# Altium footprint library SparkFun-Sensors.PCBLIB: 67 footprints (part 2 of 5)
Each footprint in its own frame and in the unit in brackets; x right, y up, seen from the top. Pads: shape width x height; smd on the part's side, far side on the other; paste and mask are expansions set on the pad; w line width, h text height; cw(c..) or ccw(c..) is an arc to the next point about the centre after c.
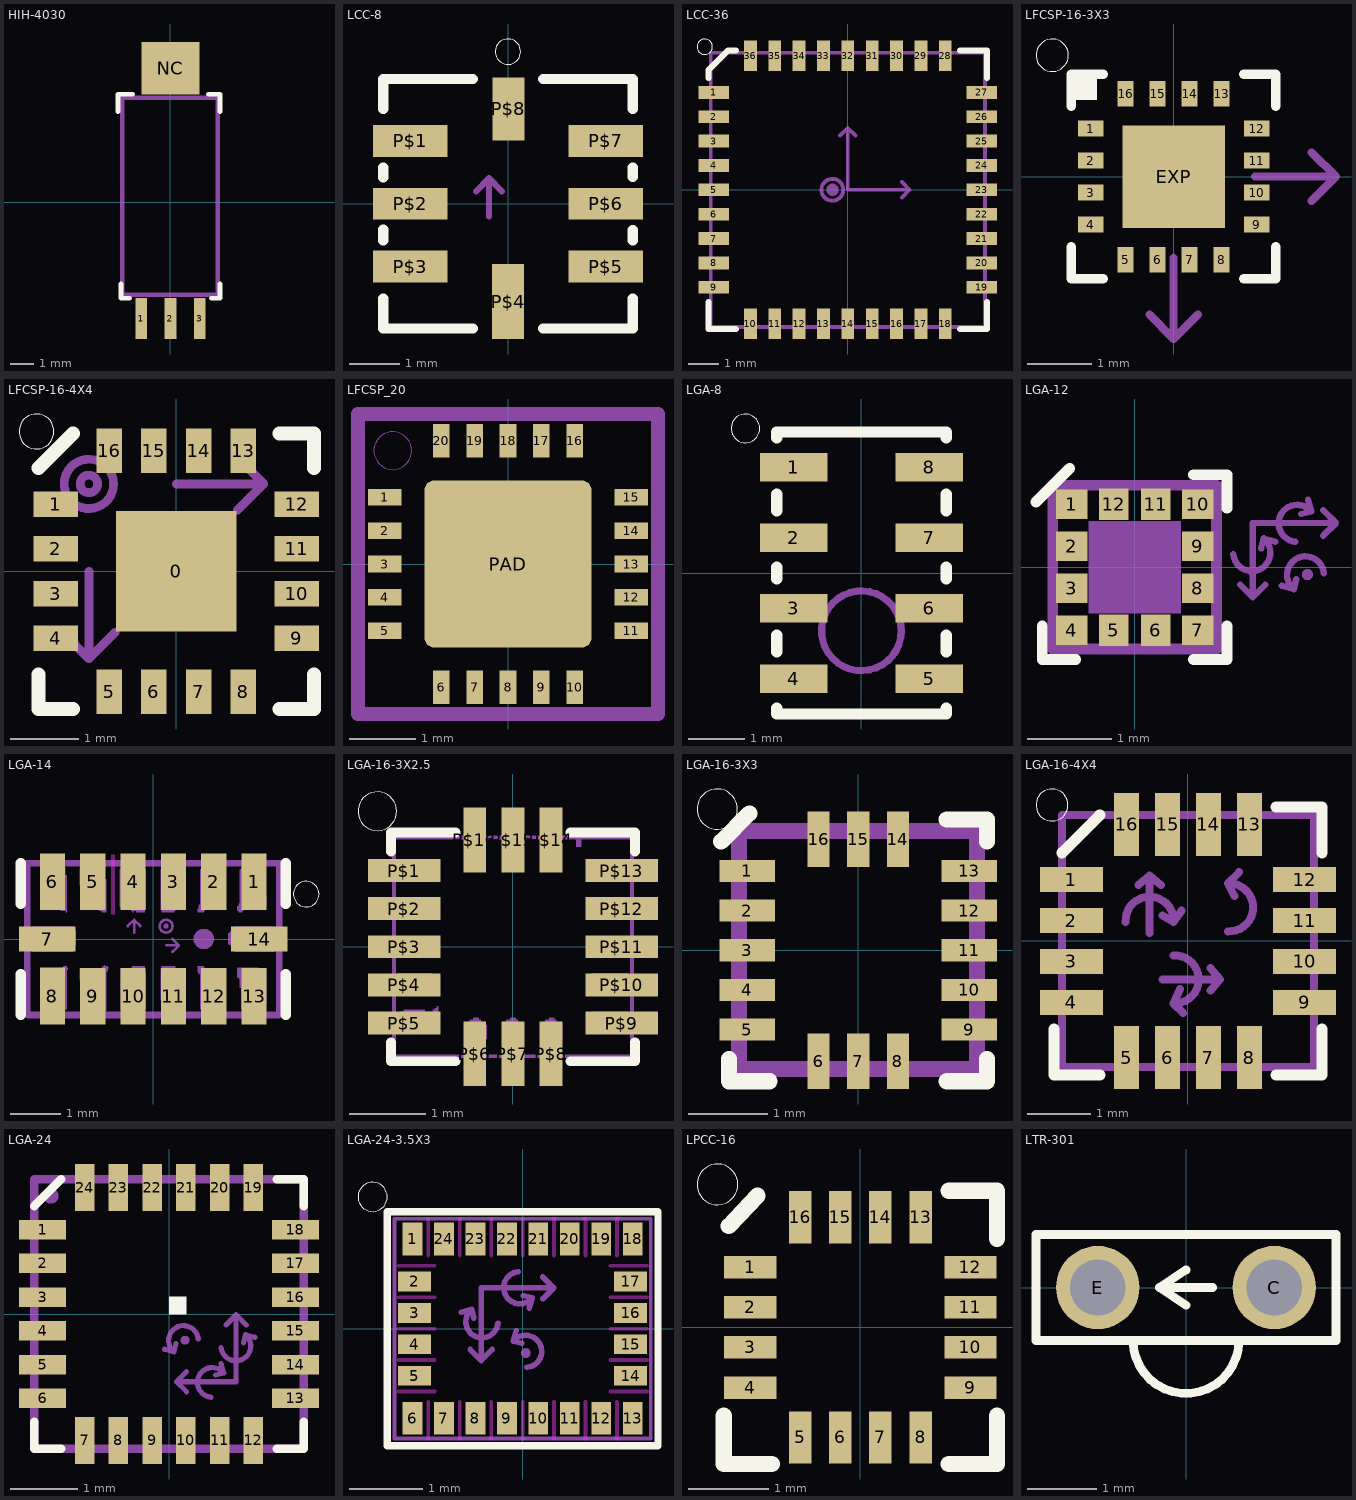
[diagram p1: the footprints below, top view; thin cyan lines are the x and y axes]

## HIH-4030 [mil]
pads (4):
  rect 20x70 smd: 1(-50,-200) 2(0,-200) 3(50,-200)
  rect 100x90 smd: NC(0,230)
Top Overlay:
  lines w8: -90,155 -90,185 -65,185 ; -85,-140 -85,-165 -70,-165 ; 65,185 85,185 85,155 ; 70,-165 85,-165 85,-140
Mechanical 16:
  lines w8: -83,-159 81,-159 81,179 -83,179 -83,-159

## LCC-8 [mm]
pads (8):
  rect 1.5x0.64 smd: P$1(-1.96,1.26) P$2(-1.96,0) P$3(-1.96,-1.26) P$5(1.96,-1.26) P$6(1.96,0) P$7(1.96,1.26)
  rect 0.64x1.5 smd: P$4(0,-1.96)
  rect 0.64x1.27 smd: P$8(0.01,1.9)
Top Overlay:
  circle w0: c0,3.048 r0.254
  lines w0.203: -2.5,-1.9 -2.5,-2.5 -0.7,-2.5 ; -2.5,-0.73 -2.5,-0.52 ; -2.5,0.53 -2.5,0.73 ; -2.5,1.9 -2.5,2.5 -0.7,2.5 ; 0.7,-2.5 2.5,-2.5 2.5,-1.9 ; 0.7,2.5 2.5,2.5 2.5,1.9 ; 2.5,-0.73 2.5,-0.53 ; 2.5,0.54 2.5,0.73
Mechanical 16:
  lines w0.127: -0.635,0.254 -0.381,0.508 ; -0.381,-0.254 -0.381,0.508 ; -0.127,0.254 -0.381,0.508
  text "X" at 0,-0.254 h0.94

## LCC-36 [mm]
pads (36):
  rect 1x0.42 smd: 1(-4.4,3.2) 2(-4.4,2.4) 3(-4.4,1.6) 4(-4.4,0.8) 5(-4.4,0) 6(-4.4,-0.8) 7(-4.4,-1.6) 8(-4.4,-2.4) 9(-4.4,-3.2) 19(4.4,-3.2) 20(4.4,-2.4) 21(4.4,-1.6) 22(4.4,-0.8) 23(4.4,0) 24(4.4,0.8) 25(4.4,1.6) 26(4.4,2.4) 27(4.4,3.2)
  rect 0.42x1 smd: 10(-3.2,-4.4) 11(-2.4,-4.4) 12(-1.6,-4.4) 13(-0.8,-4.4) 14(0,-4.4) 15(0.8,-4.4) 16(1.6,-4.4) 17(2.4,-4.4) 18(3.2,-4.4) 28(3.2,4.4) 29(2.4,4.4) 30(1.6,4.4) 31(0.8,4.4) 32(0,4.4) 33(-0.8,4.4) 34(-1.6,4.4) 35(-2.4,4.4) 36(-3.2,4.4)
Top Overlay:
  circle w0: c-4.699,4.699 r0.254
  lines w0.203: -4.572,-3.683 -4.572,-4.572 -3.683,-4.572 ; -4.572,3.683 -4.572,3.937 -3.937,4.572 -3.683,4.572 ; 3.683,-4.572 4.572,-4.572 4.572,-3.683 ; 3.683,4.572 4.572,4.572 4.572,3.683
Mechanical 16:
  circle w0.127: c-0.508,0 r0.359
  circle w0.203: c-0.5,0 r0.1
  lines w0.127: -0.254,1.778 0,2.032 ; 0.254,1.778 0,2.032 ; 1.778,-0.254 2.032,0 ; 1.778,0.254 2.032,0 ; 0,2.032 0,0 2.032,0 ; -4.5,-4.5 -4.5,4.5 4.5,4.5 4.5,-4.5 -4.5,-4.5
  text "Z" at -1.27,-0.254 h0.47
  text "X" at 2.3,-0.114 h0.47
  text "Y" at -0.014,2.2 h0.47

## LFCSP-16-3X3 [mm]
pads (17):
  rect 0.4x0.25 smd: 1(-1.3,0.75) 2(-1.3,0.25) 3(-1.3,-0.25) 4(-1.3,-0.75) 9(1.3,-0.75) 10(1.3,-0.25) 11(1.3,0.25) 12(1.3,0.75)
  rect 0.25x0.4 smd: 5(-0.75,-1.3) 6(-0.25,-1.3) 7(0.25,-1.3) 8(0.75,-1.3) 13(0.75,1.3) 14(0.25,1.3) 15(-0.25,1.3) 16(-0.75,1.3)
  rect 1.6x1.6 smd: EXP(0,0)
Top Overlay:
  circle w0: c-1.9,1.9 r0.254
  rectangle: -1.6,1.2 -1.2,1.6
  lines w0.15: -1.6,-1.1 -1.6,-1.6 -1.1,-1.6 ; -1.6,1.1 -1.6,1.6 -1.1,1.6 ; 1.1,-1.6 1.6,-1.6 1.6,-1.1 ; 1.1,1.6 1.6,1.6 1.6,1.1
Top Paste:
  rectangle: -0.356,-0.356 0.356,0.356
Top Solder:
  rectangle: -0.9,-0.9 0.9,0.9
Mechanical 16:
  circle w0.127: c0,0 r0.359
  circle w0.127: c0,0 r0.127
  lines w0.127: -0.381,-2.159 0,-2.54 ; 0,-1.27 0,-2.54 ; 0.381,-2.159 0,-2.54 ; 1.27,0 2.54,0 ; 2.159,-0.381 2.54,0 ; 2.159,0.381 2.54,0
  text "X" at -0.127,-1.143 h0.79
  text "Z" at -0.762,0.127 h0.79
  text "Y" at 1.27,0.127 h0.79

## LFCSP-16-4X4 [mm]
pads (17):
  rect 1.75x1.75 smd: 0(0,0)
  rect 0.65x0.37 smd: 1(-1.75,0.975) 2(-1.75,0.325) 3(-1.75,-0.325) 4(-1.75,-0.975) 9(1.75,-0.975) 10(1.75,-0.325) 11(1.75,0.325) 12(1.75,0.975)
  rect 0.37x0.65 smd: 5(-0.975,-1.75) 6(-0.325,-1.75) 7(0.325,-1.75) 8(0.975,-1.75) 13(0.975,1.75) 14(0.325,1.75) 15(-0.325,1.75) 16(-0.975,1.75)
Top Overlay:
  circle w0: c-2.032,2.032 r0.254
  lines w0.203: -2,-1.5 -2,-2 -1.5,-2 ; -2,1.5 -1.5,2 ; 1.5,-2 2,-2 2,-1.5 ; 1.5,2 2,2 2,1.5
Top Paste:
  rectangle: -0.25,-0.25 0.25,0.25
Mechanical 16:
  circle w0.127: c-1.27,1.27 r0.359
  circle w0.127: c-1.27,1.27 r0.127
  lines w0.127: -1.651,-0.889 -1.27,-1.27 ; -1.27,0 -1.27,-1.27 ; -0.889,-0.889 -1.27,-1.27 ; 0,1.27 1.27,1.27 ; 0.889,0.889 1.27,1.27 ; 0.889,1.651 1.27,1.27
  text "X" at -1.397,0.127 h0.79
  text "Z" at -2.032,1.397 h0.79
  text "Y" at 0,1.397 h0.79

## LFCSP_20 [mm]
pads (21):
  rect 0.5x0.25 smd: 1(-1.85,1) 2(-1.85,0.5) 3(-1.85,0) 4(-1.85,-0.5) 5(-1.85,-1) 11(1.85,-1) 12(1.85,-0.5) 13(1.85,0) 14(1.85,0.5) 15(1.85,1)
  rect 0.25x0.5 smd: 6(-1,-1.85) 7(-0.5,-1.85) 8(0,-1.85) 9(0.5,-1.85) 10(1,-1.85) 16(1,1.85) 17(0.5,1.85) 18(0,1.85) 19(-0.5,1.85) 20(-1,1.85)
  rrect10% 2.5x2.5 smd: PAD(0,0)
Top Paste:
  region: 0,0 0.254,0 0.254,0.254 0,0.254
Mechanical 16:
  circle w0: c-1.729,1.7 r0.283
  lines w0.203: -2.25,-2.25 -2.25,2.25 2.25,2.25 2.25,-2.25 -2.25,-2.25

## LGA-8 [mm]
pads (8):
  rect 1.2x0.5 smd: 1(-1.2,1.875) 2(-1.2,0.625) 3(-1.2,-0.625) 4(-1.2,-1.875) 5(1.2,-1.875) 6(1.2,-0.625) 7(1.2,0.625) 8(1.2,1.875)
Top Overlay:
  circle w0: c-2.057,2.565 r0.254
  lines w0.203: -1.5,-2.4 -1.5,-2.5 1.5,-2.5 1.5,-2.4 ; -1.5,-1.4 -1.5,-1.1 ; -1.5,-0.1 -1.5,0.1 ; -1.5,1.1 -1.5,1.4 ; -1.5,2.4 -1.5,2.5 1.5,2.5 1.5,2.4 ; 1.5,-1.4 1.5,-1.1 ; 1.5,-0.1 1.5,0.1 ; 1.5,1.1 1.5,1.4
Mechanical 16:
  circle w0.127: c0,-1.025 r0.707

## LGA-12 [mm]
pads (12):
  rect 0.375x0.35 smd: 1(-0.75,0.75) 2(-0.75,0.25) 3(-0.75,-0.25) 4(-0.75,-0.75) 7(0.75,-0.75) 8(0.75,-0.25) 9(0.75,0.25) 10(0.75,0.75)
  rect 0.35x0.375 smd: 5(-0.25,-0.75) 6(0.25,-0.75) 11(0.25,0.75) 12(-0.25,0.75)
Top Overlay:
  lines w0.127: -1.175,0.775 -0.775,1.175 ; -1.1,-0.7 -1.1,-1.1 -0.7,-1.1 ; 0.7,-1.1 1.1,-1.1 1.1,-0.7 ; 0.7,1.1 1.1,1.1 1.1,0.7
Mechanical 16:
  circle w0.076: c2.058,-0.089 r0.028
  rectangle: 0.125,0.612 0.375,0.887
  rectangle: -0.375,0.612 -0.125,0.887
  region: -0.613,0.125 -0.613,0.375 -0.888,0.375 -0.888,0.125
  region: -0.613,-0.375 -0.613,-0.125 -0.888,-0.125 -0.888,-0.375
  region: -0.613,-0.875 -0.613,-0.625 -0.888,-0.625 -0.888,-0.875
  region: -0.125,-0.612 -0.375,-0.612 -0.375,-0.887 -0.125,-0.887
  region: 0.375,-0.612 0.125,-0.612 0.125,-0.887 0.375,-0.887
  region: 0.613,-0.625 0.613,-0.875 0.888,-0.875 0.888,-0.625
  region: 0.613,-0.125 0.613,-0.375 0.888,-0.375 0.888,-0.125
  region: 0.613,0.375 0.613,0.125 0.888,0.125 0.888,0.375
  region: 0.613,0.875 0.613,0.625 0.888,0.625 0.888,0.875
  region: 0,0 0.254,0 0.254,0.254 0,0.254
  lines w0.076: 1.176,0.152 ccw(c1.395,0.172) 1.536,0.342 ; 1.256,-0.208 1.406,-0.358 1.556,-0.208 ; 1.406,-0.355 1.406,0.526 2.398,0.526 ; 1.506,0.222 1.536,0.342 ; 1.676,0.302 1.536,0.342 ; 1.754,-0.222 1.894,-0.262 ; 1.914,0.303 cw(c1.935,0.522) 2.104,0.663 ; 1.924,-0.142 1.894,-0.262 ; 1.985,0.633 2.104,0.663 ; 2.065,0.803 2.104,0.663 ; 2.248,0.376 2.398,0.526 ; 2.248,0.676 2.398,0.526 ; 2.254,-0.072 ccw(c2.035,-0.092) 1.894,-0.262
  lines w0.127: -0.975,-0.975 -0.975,0.975 0.975,0.975 0.975,-0.975 -0.975,-0.975
  text "X" at 2.585,0.516 h0.46
  text "Y" at 1.42,-0.59 h0.46
  text "Z" at 2.248,-0.299 h0.46
Mechanical 27:
  rectangle: -0.55,-0.55 0.55,0.55

## LGA-14 [mm]
pads (14):
  rect 0.5x1.124 smd: 1(2,1.138) 2(1.2,1.138) 3(0.4,1.138) 4(-0.4,1.138) 5(-1.2,1.138) 6(-2,1.138) 8(-2,-1.131) 9(-1.2,-1.138) 10(-0.4,-1.138) 11(0.4,-1.138) 12(1.2,-1.138) 13(2,-1.138)
  rect 1.124x0.5 smd: 7(-2.1,0) 14(2.1,0)
Top Layer keep-out:
  rectangle: -0.838,0.483 -0.762,1.676
Top Overlay:
  circle w0: c3.032,0.889 r0.254
  lines w0.203: -2.627,-1.5 -2.627,-0.7 ; -2.627,0.7 -2.627,1.5 ; 2.627,-1.5 2.627,-0.7 ; 2.627,0.7 2.627,1.5
Mechanical 16:
  circle w0.203: c1,0 r0.1
  circle w0.051: c0.254,0.254 r0.127
  circle w0.051: c0.254,0.254 r0.025
  lines w0.051: -0.508,0.254 -0.381,0.381 ; -0.381,0.127 -0.381,0.381 ; -0.254,0.254 -0.381,0.381 ; 0.254,-0.127 0.508,-0.127 ; 0.381,-0.254 0.508,-0.127 ; 0.381,0 0.508,-0.127
  lines w0.127: -2.5,-1.5 -2.5,1.5 2.5,1.5 2.5,-1.5 -2.5,-1.5
  text "X" at -0.127,-0.254 h0.47
  text "Y" at -0.508,-0.254 h0.47
  text "Z" at -0.127,0.127 h0.47
Mech84:
  drawing of 702 lines, arcs and shapes, not listed

## LGA-16-3X2.5 [mil]
pads (16):
  rect 37.5x11.81 smd: P$1(-56.15,39.37) P$2(-56.15,19.69) P$3(-56.15,0) P$4(-56.15,-19.69) P$5(-56.15,-39.37) P$9(56.15,-39.37) P$10(56.15,-19.69) P$11(56.15,0) P$12(56.15,19.69) P$13(56.15,39.37)
  rect 11.81x33.5 smd: P$6(-19.69,-55.2) P$7(0,-55.2) P$8(19.69,-55.2) P$14(19.69,55.2) P$15(0,55.2) P$16(-19.69,55.2)
Top Overlay:
  circle w0: c-70,70 r10
  lines w5: -62.99,-49.21 -62.99,-59.06 -29.53,-59.06 ; -62.99,49.21 -62.99,59.06 -29.53,59.06 ; 29.53,-59.06 62.99,-59.06 62.99,-49.21 ; 29.53,59.06 62.99,59.06 62.99,49.21
Mech84:
  drawing of 427 lines, arcs and shapes, not listed

## LGA-16-3X3 [mm]
pads (16):
  rect 0.7x0.28 smd: 1(-1.4,1) 2(-1.4,0.5) 3(-1.4,0) 4(-1.4,-0.5) 5(-1.4,-1) 9(1.4,-1) 10(1.4,-0.5) 11(1.4,0) 12(1.4,0.5) 13(1.4,1)
  rect 0.28x0.7 smd: 6(-0.5,-1.4) 7(0,-1.4) 8(0.5,-1.4) 14(0.5,1.4) 15(0,1.4) 16(-0.5,1.4)
Top Overlay:
  circle w0: c-1.778,1.778 r0.254
  lines w0.203: -1.728,1.369 -1.372,1.725 ; -1.627,-1.372 -1.627,-1.653 -1.119,-1.653 ; 1.116,-1.653 1.624,-1.653 1.624,-1.372 ; 1.116,1.649 1.624,1.649 1.624,1.369
Mechanical 16:
  lines w0.203: -1.5,-1.5 -1.5,1.5 1.5,1.5 1.5,-1.5 -1.5,-1.5

## LGA-16-4X4 [mm]
pads (16):
  rect 1x0.4 smd: 1(-1.85,0.975) 2(-1.85,0.325) 3(-1.85,-0.325) 4(-1.85,-0.975) 9(1.85,-0.975) 10(1.85,-0.325) 11(1.85,0.325) 12(1.85,0.975)
  rect 0.4x1 smd: 5(-0.975,-1.85) 6(-0.325,-1.85) 7(0.325,-1.85) 8(0.975,-1.85) 13(0.975,1.85) 14(0.325,1.85) 15(-0.325,1.85) 16(-0.975,1.85)
Top Overlay:
  circle w0: c-2.159,2.159 r0.254
  lines w0.178: -2.127,-1.4 -2.127,-2.127 -1.4,-2.127 ; -2,1.4 -1.4,2 ; 1.4,-2.127 2.127,-2.127 2.127,-1.4 ; 1.4,2.127 2.127,2.127 2.127,1.4
Mechanical 16:
  rectangle: -1.9,0.175 -1.5,0.475
  rectangle: -1.9,-0.475 -1.5,-0.175
  rectangle: -1.9,-1.125 -1.5,-0.825
  rectangle: -1.9,0.825 -1.5,1.125
  region: -0.175,-1.9 -0.175,-1.5 -0.475,-1.5 -0.475,-1.9
  region: 0.475,-1.9 0.475,-1.5 0.175,-1.5 0.175,-1.9
  region: 1.125,-1.9 1.125,-1.5 0.825,-1.5 0.825,-1.9
  region: -0.825,-1.9 -0.825,-1.5 -1.125,-1.5 -1.125,-1.9
  region: 1.9,-0.175 1.5,-0.175 1.5,-0.475 1.9,-0.475
  region: 1.9,0.475 1.5,0.475 1.5,0.175 1.9,0.175
  region: 1.9,1.125 1.5,1.125 1.5,0.825 1.9,0.825
  region: 1.9,-0.825 1.5,-0.825 1.5,-1.125 1.9,-1.125
  region: 0.175,1.9 0.175,1.5 0.475,1.5 0.475,1.9
  region: -0.475,1.9 -0.475,1.5 -0.175,1.5 -0.175,1.9
  region: -1.125,1.9 -1.125,1.5 -0.825,1.5 -0.825,1.9
  region: 0.825,1.9 0.825,1.5 1.125,1.5 1.125,1.9
  lines w0.127: -0.991,0.305 cw(c-0.61,0.323) -0.229,0.305 ; -0.787,0.889 -0.61,1.041 ; -0.61,0.127 -0.61,1.041 ; -0.432,0.889 -0.61,1.041 ; -0.406,-0.61 0.508,-0.61 ; -0.406,0.406 -0.229,0.305 ; -0.229,-0.229 cw(c-0.211,-0.61) -0.229,-0.991 ; -0.127,-0.762 -0.229,-0.991 ; -0.102,0.483 -0.229,0.305 ; -0.076,-1.143 -0.229,-0.991 ; 0.356,-0.787 0.508,-0.61 ; 0.356,-0.432 0.508,-0.61 ; 0.635,0.152 ccw(c0.653,0.533) 0.635,0.914 ; 0.737,0.711 0.635,0.914 ; 0.813,1.092 0.635,0.914 ; -2,-2 2,-2 2,2 -2,2 -2,-2
  text "Z" at 0.33,0.33 h0.63
  text "Y" at -0.356,0.711 h0.63
  text "X" at -0.762,-0.813 h0.63

## LGA-24 [mm]
pads (24):
  rect 0.7x0.29 smd: 1(-1.875,1.25) 2(-1.875,0.75) 3(-1.875,0.25) 4(-1.875,-0.25) 5(-1.875,-0.75) 6(-1.875,-1.25) 13(1.875,-1.25) 14(1.875,-0.75) 15(1.875,-0.25) 16(1.875,0.25) 17(1.875,0.75) 18(1.875,1.25)
  rect 0.29x0.7 smd: 7(-1.25,-1.875) 8(-0.75,-1.875) 9(-0.25,-1.875) 10(0.25,-1.875) 11(0.75,-1.875) 12(1.25,-1.875) 19(1.25,1.875) 20(0.75,1.875) 21(0.25,1.875) 22(-0.25,1.875) 23(-0.75,1.875) 24(-1.25,1.875)
Top Overlay:
  region: 0,0 0.254,0 0.254,0.254 0,0.254
  lines w0.127: -2,-1.6 -2,-2 -1.6,-2 ; -2,1.6 -1.6,2 ; 1.6,-2 2,-2 2,-1.6 ; 1.6,2 2,2 2,1.6
Mechanical 16:
  circle w0.127: c-1.75,1.75 r0.05
  circle w0.076: c0.238,-0.389 r0.028
  rectangle: -0.35,-1.9 -0.15,-1.55
  rectangle: 0.15,-1.9 0.35,-1.55
  rectangle: 0.65,-1.9 0.85,-1.55
  rectangle: 1.15,-1.9 1.35,-1.55
  rectangle: -0.85,-1.9 -0.65,-1.55
  rectangle: -1.35,-1.9 -1.15,-1.55
  region: 0.35,1.9 0.15,1.9 0.15,1.55 0.35,1.55
  region: -0.15,1.9 -0.35,1.9 -0.35,1.55 -0.15,1.55
  region: -0.65,1.9 -0.85,1.9 -0.85,1.55 -0.65,1.55
  region: -1.15,1.9 -1.35,1.9 -1.35,1.55 -1.15,1.55
  region: 0.85,1.9 0.65,1.9 0.65,1.55 0.85,1.55
  region: 1.35,1.9 1.15,1.9 1.15,1.55 1.35,1.55
  rectangle: -1.9,0.15 -1.55,0.35
  rectangle: -1.9,-0.35 -1.55,-0.15
  rectangle: -1.9,0.65 -1.55,0.85
  rectangle: -1.9,1.15 -1.55,1.35
  rectangle: -1.9,-0.85 -1.55,-0.65
  rectangle: -1.9,-1.35 -1.55,-1.15
  region: 1.9,-0.15 1.55,-0.15 1.55,-0.35 1.9,-0.35
  region: 1.9,0.35 1.55,0.35 1.55,0.15 1.9,0.15
  region: 1.9,-0.65 1.55,-0.65 1.55,-0.85 1.9,-0.85
  region: 1.9,-1.15 1.55,-1.15 1.55,-1.35 1.9,-1.35
  region: 1.9,0.85 1.55,0.85 1.55,0.65 1.9,0.65
  region: 1.9,1.35 1.55,1.35 1.55,1.15 1.9,1.15
  lines w0.076: -0.066,-0.522 0.074,-0.562 ; 0.104,-0.442 0.074,-0.562 ; 0.115,-1.004 0.996,-1.004 0.996,-0.012 ; 0.262,-1.154 0.112,-1.004 0.262,-0.854 ; 0.434,-0.372 ccw(c0.215,-0.393) 0.074,-0.562 ; 0.622,-1.234 cw(c0.643,-1.015) 0.812,-0.874 ; 0.692,-0.904 0.812,-0.874 ; 0.772,-0.734 0.812,-0.874 ; 0.773,-0.496 ccw(c0.992,-0.475) 1.133,-0.306 ; 0.846,-0.162 0.996,-0.012 ; 1.103,-0.426 1.133,-0.306 ; 1.146,-0.162 0.996,-0.012 ; 1.273,-0.346 1.133,-0.306
  lines w0.127: -2,-2 -2,2 2,2 2,-2 -2,-2
  text "X" at 0.995,0.166 h0.46
  text "Y" at -0.05,-1 h0.46
  text "Z" at -0.222,-0.149 h0.46

## LGA-24-3.5X3 [mm]
pads (24):
  rect 0.27x0.45 smd: 1(-1.505,1.225) 6(-1.505,-1.225) 7(-1.075,-1.225) 8(-0.645,-1.225) 9(-0.215,-1.225) 10(0.215,-1.225) 11(0.645,-1.225) 12(1.075,-1.225) 13(1.505,-1.225) 18(1.505,1.225) 19(1.075,1.225) 20(0.645,1.225) 21(0.215,1.225) 22(-0.215,1.225) 23(-0.645,1.225) 24(-1.075,1.225)
  rect 0.45x0.27 smd: 2(-1.475,0.645) 3(-1.475,0.215) 4(-1.475,-0.215) 5(-1.475,-0.645) 14(1.475,-0.645) 15(1.475,-0.215) 16(1.475,0.215) 17(1.475,0.645)
Top Layer keep-out:
  lines w0.051: -1.7,-0.86 -1.2,-0.86 ; -1.7,-0.43 -1.2,-0.43 ; -1.7,0 -1.2,0 ; -1.7,0.43 -1.2,0.43 ; -1.7,0.86 -1.2,0.86 ; -1.29,-1.5 -1.29,-1 ; -1.29,1 -1.29,1.5 ; -0.86,-1.5 -0.86,-1 ; -0.86,1 -0.86,1.5 ; -0.43,-1.5 -0.43,-1 ; -0.43,1 -0.43,1.5 ; 0,-1.5 0,-1 ; 0,1 0,1.5 ; 0.43,-1.5 0.43,-1 ; 0.43,1 0.43,1.5 ; 0.86,-1.5 0.86,-1 ; 0.86,1 0.86,1.5 ; 1.2,-0.86 1.7,-0.86 ; 1.2,-0.43 1.7,-0.43 ; 1.2,0 1.7,0 ; 1.2,0.43 1.7,0.43 ; 1.2,0.86 1.7,0.86 ; 1.29,-1.5 1.29,-1 ; 1.29,1 1.29,1.5
Top Overlay:
  circle w0: c-2.05,1.8 r0.2
  lines w0.102: -1.85,-1.6 1.85,-1.6 1.85,1.6 -1.85,1.6 -1.85,-1.6
Mechanical 16:
  circle w0.076: c0.043,-0.334 r0.028
  rectangle: 1.39,1.05 1.62,1.4
  rectangle: 0.96,1.05 1.19,1.4
  rectangle: 0.53,1.05 0.76,1.4
  rectangle: 0.1,1.05 0.33,1.4
  rectangle: -0.33,1.05 -0.1,1.4
  rectangle: -0.76,1.05 -0.53,1.4
  rectangle: -1.19,1.05 -0.96,1.4
  rectangle: -1.62,1.05 -1.39,1.4
  region: -1.39,-1.05 -1.62,-1.05 -1.62,-1.4 -1.39,-1.4
  region: -0.96,-1.05 -1.19,-1.05 -1.19,-1.4 -0.96,-1.4
  region: -0.53,-1.05 -0.76,-1.05 -0.76,-1.4 -0.53,-1.4
  region: -0.1,-1.05 -0.33,-1.05 -0.33,-1.4 -0.1,-1.4
  region: 0.33,-1.05 0.1,-1.05 0.1,-1.4 0.33,-1.4
  region: 0.76,-1.05 0.53,-1.05 0.53,-1.4 0.76,-1.4
  region: 1.19,-1.05 0.96,-1.05 0.96,-1.4 1.19,-1.4
  region: 1.62,-1.05 1.39,-1.05 1.39,-1.4 1.62,-1.4
  rectangle: -1.65,0.53 -1.3,0.76
  rectangle: -1.65,0.1 -1.3,0.33
  rectangle: -1.65,-0.33 -1.3,-0.1
  rectangle: -1.65,-0.76 -1.3,-0.53
  region: 1.65,-0.53 1.3,-0.53 1.3,-0.76 1.65,-0.76
  region: 1.65,-0.1 1.3,-0.1 1.3,-0.33 1.65,-0.33
  region: 1.65,0.33 1.3,0.33 1.3,0.1 1.65,0.1
  region: 1.65,0.76 1.3,0.76 1.3,0.53 1.65,0.53
  lines w0.051: -1.75,-1.5 -1.75,1.5 1.75,1.5 1.75,-1.5 -1.75,-1.5
  lines w0.076: -0.837,0.225 -0.697,0.265 ; -0.717,-0.285 -0.567,-0.435 -0.417,-0.285 ; -0.667,0.145 -0.697,0.265 ; -0.567,-0.432 -0.567,0.556 0.425,0.556 ; -0.337,0.075 cw(c-0.556,0.095) -0.697,0.265 ; -0.09,-0.03 -0.13,-0.17 ; -0.059,0.78 ccw(c-0.038,0.56) 0.131,0.419 ; -0.01,-0.2 -0.13,-0.17 ; 0.011,0.449 0.131,0.419 ; 0.06,-0.53 ccw(c0.04,-0.311) -0.13,-0.17 ; 0.091,0.279 0.131,0.419 ; 0.275,0.406 0.425,0.556 ; 0.275,0.706 0.425,0.556
  text "X" at 0.603,0.557 h0.46
  text "Y" at -0.571,-0.647 h0.46
  text "Z" at 0.354,0.063 h0.46

## LPCC-16 [mm]
pads (16):
  rect 0.65x0.28 smd: 1(-1.37,0.75) 2(-1.37,0.25) 3(-1.37,-0.25) 4(-1.37,-0.75) 9(1.37,-0.75) 10(1.37,-0.25) 11(1.37,0.25) 12(1.37,0.75)
  rect 0.28x0.65 smd: 5(-0.75,-1.37) 6(-0.25,-1.37) 7(0.25,-1.37) 8(0.75,-1.37) 13(0.75,1.37) 14(0.25,1.37) 15(-0.25,1.37) 16(-0.75,1.37)
Top Overlay:
  circle w0: c-1.778,1.778 r0.254
  lines w0.203: -1.7,-1.1 -1.7,-1.7 -1.1,-1.7 ; -1.635,1.26 -1.28,1.635 ; 1.1,-1.7 1.7,-1.7 1.7,-1.1 ; 1.1,1.7 1.7,1.7 1.7,1.1

## LTR-301 [mil]
pads (2):
  round 47.25 hole 31.5: C(50,0) E(-50,0)
Top Overlay:
  lines w5: 0,-10 -15,0 ; 0,10 -15,0 ; 15,0 -15,0 ; -30,-30 30,-30 ; -30,-30 -85,-30 -85,30 85,30 85,-30 30,-30 ; -30,-30 ccw(c0,-30) 30,-30